# Altium schematic symbol library SCH16T-K01-1.SchLib: 1 symbol
Pins are listed as number, name and electrical type; pins without a type are passive.

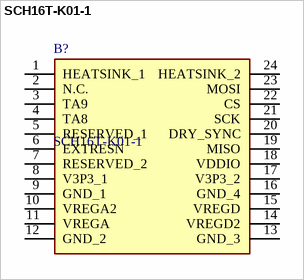
[diagram p0: symbol SCH16T-K01-1]

## SCH16T-K01-1
designator B?
Gyroscopes 6-DOF XYZ-Axis gyroscope 300deg/s and XYZ-Axis accelerometer 8g (26g); Manufacturer_Name: Murata Electronics; Geometry.Height: 3mm; Mouser Part Number: 81-SCH16T-K01-1; Mouser Price/Stock: https://www.mouser.co.uk/ProductDetail/Murata-Electronics/SCH16T-K01-1?qs=HFfMDpzxxd0hctvcENbFhg%3D%3D; Manufacturer_Part_Number: SCH16T-K01-1; Datasheet Link: https://www.murata.com/-/media/webrenewal/products/sensor/pdf/datasheet/datasheet-sch16t-series-short.ashx?la=en-us&cvid=20240110024121000000
footprint SCH16TK011
pins: 1 HEATSINK_1, 2 N.C., 3 TA9, 4 TA8, 5 RESERVED_1, 6 EXTRESN, 7 RESERVED_2, 8 V3P3_1, 9 GND_1, 10 VREGA2, 11 VREGA, 12 GND_2, 13 GND_3, 14 VREGD2, 15 VREGD, 16 GND_4, 17 V3P3_2, 18 VDDIO, 19 MISO, 20 DRY_SYNC, 21 SCK, 22 CS, 23 MOSI, 24 HEATSINK_2